# EAGLE library part MC68HC908QT2 (library ignition)
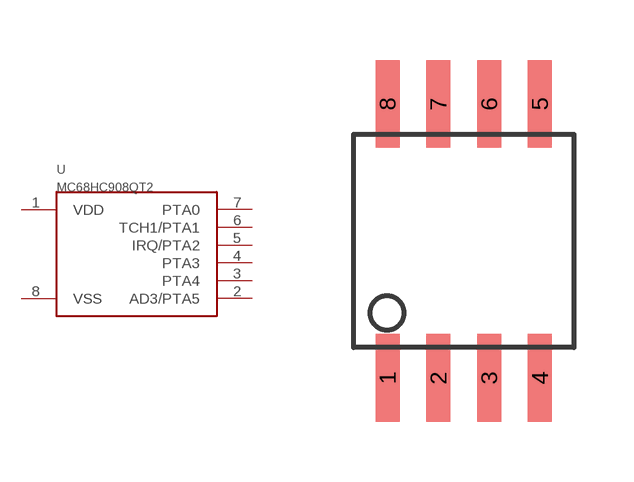
[diagram p0: symbol with the pads of SOIC-8-T2; footprint SOIC-8-T2]

Designator prefix -

## MC68HC908QT2  [SOIC-8-T2]
1  VDD  sup
2  AD3/PTA5
3  PTA4
4  PTA3
5  IRQ/PTA2
6  TCH1/PTA1
7  PTA0
8  VSS  sup

## Footprint SOIC-8-T2 (pad centres in mm)
smd 0.599 x 2.2: 1 -1.905,-3.429; 2 -0.635,-3.429; 3 0.635,-3.429; 4 1.905,-3.429; 5 1.905,3.429; 6 0.635,3.429; 7 -0.635,3.429; 8 -1.905,3.429